# Altium footprint library LabLib.PcbLib: 145 footprints (part 5 of 10)
Each footprint in its own frame and in the unit in brackets; x right, y up, seen from the top. Pads: shape width x height; smd on the part's side, far side on the other; paste and mask are expansions set on the pad; w line width, h text height; cw(c..) or ccw(c..) is an arc to the next point about the centre after c.
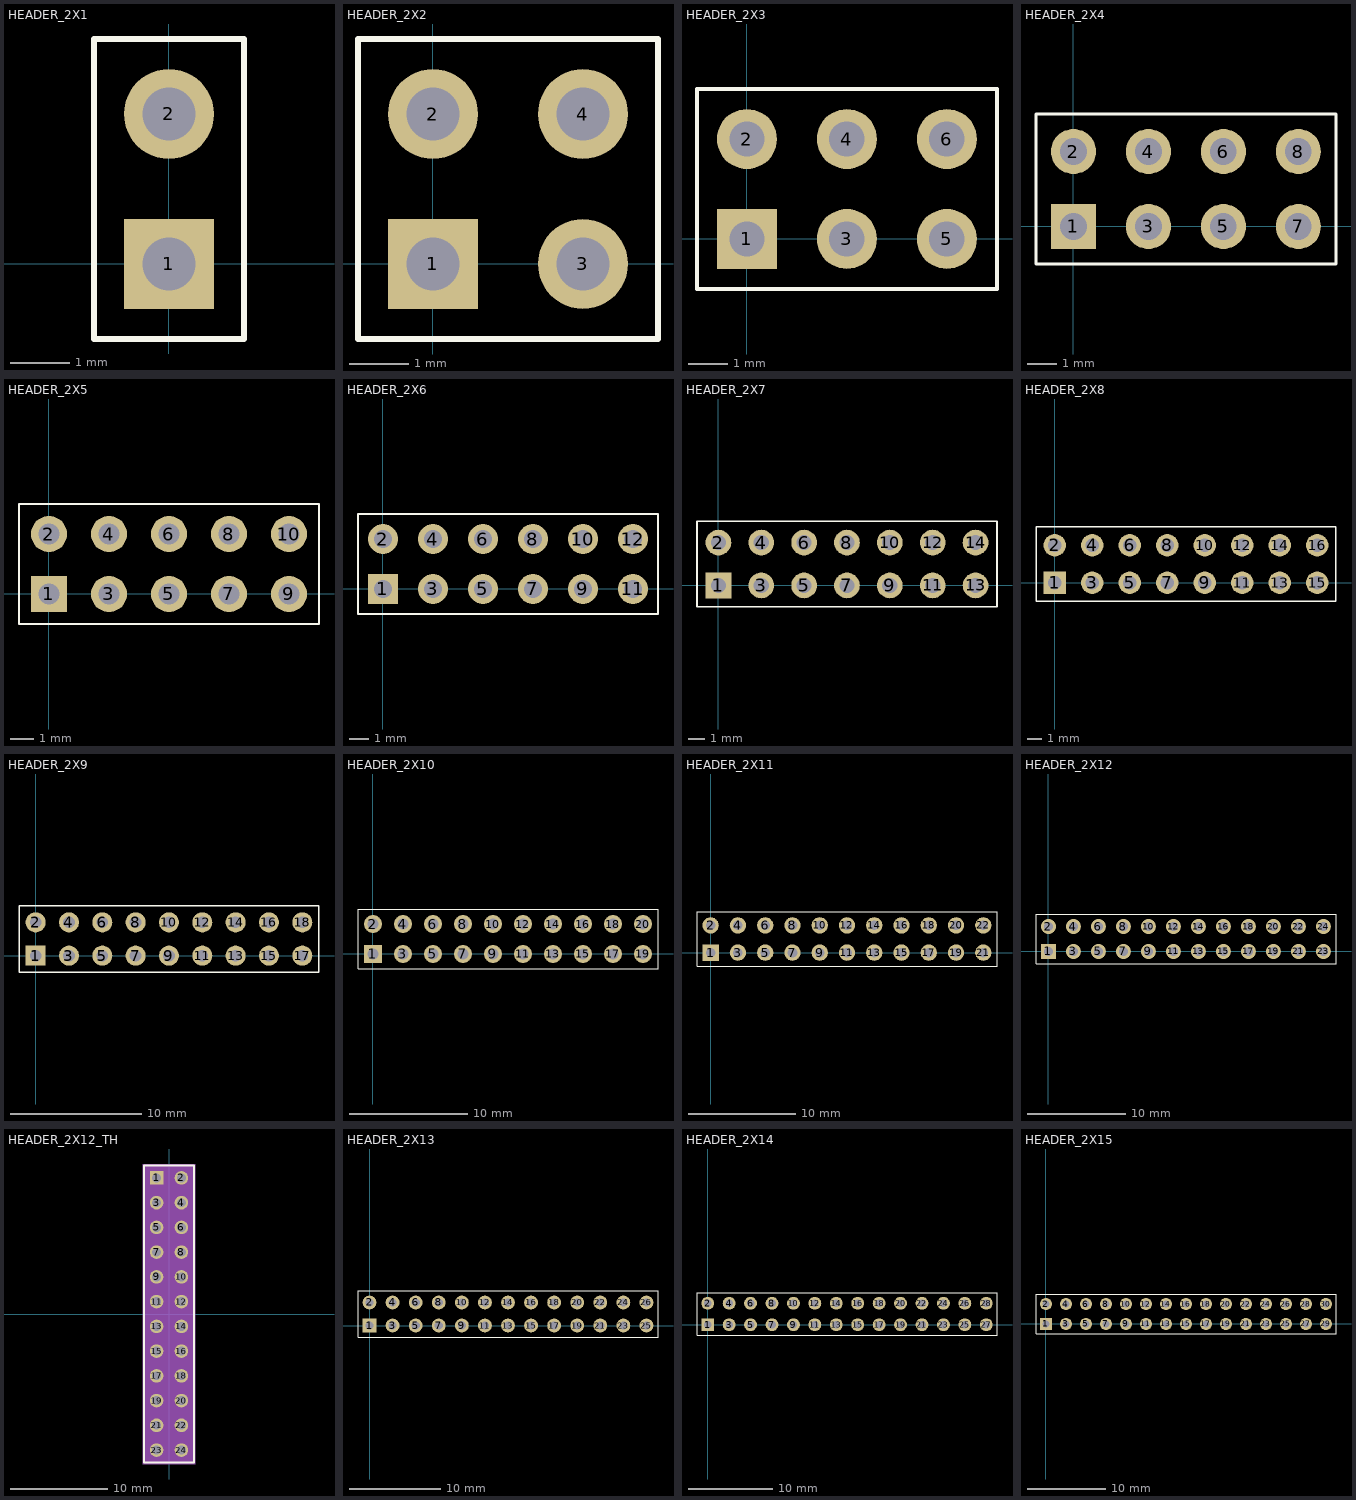
[diagram p4: the footprints below, top view; thin cyan lines are the x and y axes]

## HEADER_2X1 [mil]
pads (2):
  rect 60x60 hole 35.43: 1(0,0)
  round 60 hole 35.43: 2(0,100)
Top Overlay:
  lines w3.97: -50,-50 50.1,-50 50.1,150 -50,150 -50,-50

## HEADER_2X2 [mil]
pads (4):
  rect 60x60 hole 35.43: 1(0,0)
  round 60 hole 35.43: 2(0,100) 3(100,0) 4(100,100)
Top Overlay:
  lines w3.97: -50,-50 150.1,-50 150.1,150 -50,150 -50,-50

## HEADER_2X3 [mil]
pads (6):
  rect 60x60 hole 35.43: 1(0,0)
  round 60 hole 35.43: 2(0,100) 3(100,0) 4(100,100) 5(200,0) 6(200,100)
Top Overlay:
  lines w3.97: -50,-50 -50,150 250.1,150 250.1,-50 -50,-50
3D body "Pin Header 2x3 TH Pitch 2.54mm.stp": height 373.85, standoff -125.98, extent -50,-50 250,150

## HEADER_2X4 [mil]
pads (8):
  rect 60x60 hole 35.43: 1(0,0)
  round 60 hole 35.43: 2(0,100) 3(100,0) 4(100,100) 5(200,0) 6(200,100) 7(300,0) 8(300,100)
Top Overlay:
  lines w3.97: -50,-50 350.1,-50 350.1,150 -50,150 -50,-50

## HEADER_2X5 [mil]
pads (10):
  rect 60x60 hole 35.43: 1(0,0)
  round 60 hole 35.43: 2(0,100) 3(100,0) 4(100,100) 5(200,0) 6(200,100) 7(300,0) 8(300,100) 9(400,0) 10(400,100)
Top Overlay:
  lines w3.97: -50,-50 450.1,-50 450.1,150 -50,150 -50,-50

## HEADER_2X6 [mil]
pads (12):
  rect 60x60 hole 35.43: 1(0,0)
  round 60 hole 35.43: 2(0,100) 3(100,0) 4(100,100) 5(200,0) 6(200,100) 7(300,0) 8(300,100) 9(400,0) 10(400,100) 11(500,0) 12(500,100)
Top Overlay:
  lines w3.97: -50,-50 550.1,-50 550.1,150 -50,150 -50,-50

## HEADER_2X7 [mil]
pads (14):
  rect 60x60 hole 35.43: 1(0,0)
  round 60 hole 35.43: 2(0,100) 3(100,0) 4(100,100) 5(200,0) 6(200,100) 7(300,0) 8(300,100) 9(400,0) 10(400,100) 11(500,0) 12(500,100) 13(600,0) 14(600,100)
Top Overlay:
  lines w3.97: -50,-50 650.1,-50 650.1,150 -50,150 -50,-50

## HEADER_2X8 [mil]
pads (16):
  rect 60x60 hole 35.43: 1(0,0)
  round 60 hole 35.43: 2(0,100) 3(100,0) 4(100,100) 5(200,0) 6(200,100) 7(300,0) 8(300,100) 9(400,0) 10(400,100) 11(500,0) 12(500,100) 13(600,0) 14(600,100) 15(700,0) 16(700,100)
Top Overlay:
  lines w3.97: -50,-50 750.1,-50 750.1,150 -50,150 -50,-50

## HEADER_2X9 [mil]
pads (18):
  rect 60x60 hole 35.43: 1(0,0)
  round 60 hole 35.43: 2(0,100) 3(100,0) 4(100,100) 5(200,0) 6(200,100) 7(300,0) 8(300,100) 9(400,0) 10(400,100) 11(500,0) 12(500,100) 13(600,0) 14(600,100) 15(700,0) 16(700,100) 17(800,0) 18(800,100)
Top Overlay:
  lines w3.97: -50,-50 850.1,-50 850.1,150 -50,150 -50,-50

## HEADER_2X10 [mil]
pads (20):
  rect 60x60 hole 35.43: 1(0,0)
  round 60 hole 35.43: 2(0,100) 3(100,0) 4(100,100) 5(200,0) 6(200,100) 7(300,0) 8(300,100) 9(400,0) 10(400,100) 11(500,0) 12(500,100) 13(600,0) 14(600,100) 15(700,0) 16(700,100) 17(800,0) 18(800,100) 19(900,0) 20(900,100)
Top Overlay:
  lines w3.97: -50,-50 950.1,-50 950.1,150 -50,150 -50,-50

## HEADER_2X11 [mil]
pads (22):
  rect 60x60 hole 35.43: 1(0,0)
  round 60 hole 35.43: 2(0,100) 3(100,0) 4(100,100) 5(200,0) 6(200,100) 7(300,0) 8(300,100) 9(400,0) 10(400,100) 11(500,0) 12(500,100) 13(600,0) 14(600,100) 15(700,0) 16(700,100) 17(800,0) 18(800,100) 19(900,0) 20(900,100) 21(1000,0) 22(1000,100)
Top Overlay:
  lines w3.97: -50,-50 1050.1,-50 1050.1,150 -50,150 -50,-50

## HEADER_2X12 [mil]
pads (24):
  rect 60x60 hole 35.43: 1(0,0)
  round 60 hole 35.43: 2(0,100) 3(100,0) 4(100,100) 5(200,0) 6(200,100) 7(300,0) 8(300,100) 9(400,0) 10(400,100) 11(500,0) 12(500,100) 13(600,0) 14(600,100) 15(700,0) 16(700,100) 17(800,0) 18(800,100) 19(900,0) 20(900,100) 21(1000,0) 22(1000,100) 23(1100,0) 24(1100,100)
Top Overlay:
  lines w3.97: -50,-50 -50,150 1150.1,150 1150.1,-50 -50,-50

## HEADER_2X12_TH [mm] "HEADER_2X12_TH"
height 4.4
pads (24):
  rect 1.4x1.4 hole 0.9: 1(-1.27,13.97)
  round 1.4 hole 0.9: 2(1.27,13.97) 3(-1.27,11.43) 4(1.27,11.43) 5(-1.27,8.89) 6(1.27,8.89) 7(-1.27,6.35) 8(1.27,6.35) 9(-1.27,3.81) 10(1.27,3.81) 11(-1.27,1.27) 12(1.27,1.27) 13(-1.27,-1.27) 14(1.27,-1.27) 15(-1.27,-3.81) 16(1.27,-3.81) 17(-1.27,-6.35) 18(1.27,-6.35) 19(-1.27,-8.89) 20(1.27,-8.89) 21(-1.27,-11.43) 22(1.27,-11.43) 23(-1.27,-13.97) 24(1.27,-13.97)
Top Overlay:
  lines w0.2: -2.55,-15.23 2.55,-15.23 2.55,15.23 -2.55,15.23 -2.55,-15.23
Mechanical 7:
  text "11" at -2.54,0.254 h0.64
  text "15" at -2.54,-4.826 h0.64
  text "13" at -2.54,-2.286 h0.64
  text "17" at -2.54,-7.366 h0.64
  text "7" at -2.54,5.842 h0.64
  text "9" at -2.54,3.302 h0.64
  text "12" at 0,0.254 h0.64
  text "8" at 0,5.842 h0.64
  text "10" at 0,2.794 h0.64
  text "18" at 0,-7.366 h0.64
  text "16" at 0,-4.826 h0.64
  text "14" at 0,-2.286 h0.64
  text "23" at -2.54,-14.986 h0.64
  text "3" at -2.54,10.922 h0.64
  text "21" at -2.54,-12.446 h0.64
  text "1" at -2.54,13.462 h0.64
  text "24" at 0,-14.986 h0.64
  text "6" at 0,8.382 h0.64
  text "20" at 0,-9.906 h0.64
  text "2" at 0,13.462 h0.64
  text "5" at -2.54,8.382 h0.64
  text "4" at 0,10.922 h0.64
  text "19" at -2.54,-9.906 h0.64
  text "22" at 0,-12.446 h0.64
Mechanical 10:
  drawing of 292 lines, arcs and shapes, not listed
Mechanical 11:
  region: -2.7,15.4 -2.7,-15.4 2.7,-15.4 2.7,15.4

## HEADER_2X13 [mil]
pads (26):
  rect 60x60 hole 35.43: 1(0,0)
  round 60 hole 35.43: 2(0,100) 3(100,0) 4(100,100) 5(200,0) 6(200,100) 7(300,0) 8(300,100) 9(400,0) 10(400,100) 11(500,0) 12(500,100) 13(600,0) 14(600,100) 15(700,0) 16(700,100) 17(800,0) 18(800,100) 19(900,0) 20(900,100) 21(1000,0) 22(1000,100) 23(1100,0) 24(1100,100) 25(1200,0) 26(1200,100)
Top Overlay:
  lines w3.97: -50,-50 -50,150 1250.1,150 1250.1,-50 -50,-50

## HEADER_2X14 [mil]
pads (28):
  rect 60x60 hole 35.43: 1(0,0)
  round 60 hole 35.43: 2(0,100) 3(100,0) 4(100,100) 5(200,0) 6(200,100) 7(300,0) 8(300,100) 9(400,0) 10(400,100) 11(500,0) 12(500,100) 13(600,0) 14(600,100) 15(700,0) 16(700,100) 17(800,0) 18(800,100) 19(900,0) 20(900,100) 21(1000,0) 22(1000,100) 23(1100,0) 24(1100,100) 25(1200,0) 26(1200,100) 27(1300,0) 28(1300,100)
Top Overlay:
  lines w3.97: -50,-50 -50,150 1350.1,150 1350.1,-50 -50,-50

## HEADER_2X15 [mil]
pads (30):
  rect 60x60 hole 35.43: 1(0,0)
  round 60 hole 35.43: 2(0,100) 3(100,0) 4(100,100) 5(200,0) 6(200,100) 7(300,0) 8(300,100) 9(400,0) 10(400,100) 11(500,0) 12(500,100) 13(600,0) 14(600,100) 15(700,0) 16(700,100) 17(800,0) 18(800,100) 19(900,0) 20(900,100) 21(1000,0) 22(1000,100) 23(1100,0) 24(1100,100) 25(1200,0) 26(1200,100) 27(1300,0) 28(1300,100) 29(1400,0) 30(1400,100)
Top Overlay:
  lines w3.97: -50,-50 -50,150 1450.1,150 1450.1,-50 -50,-50